# Altium schematic symbol library 23-Sensors 传感器.SchLib: 62 symbols
Pins are listed as number, name and electrical type; pins without a type are passive.

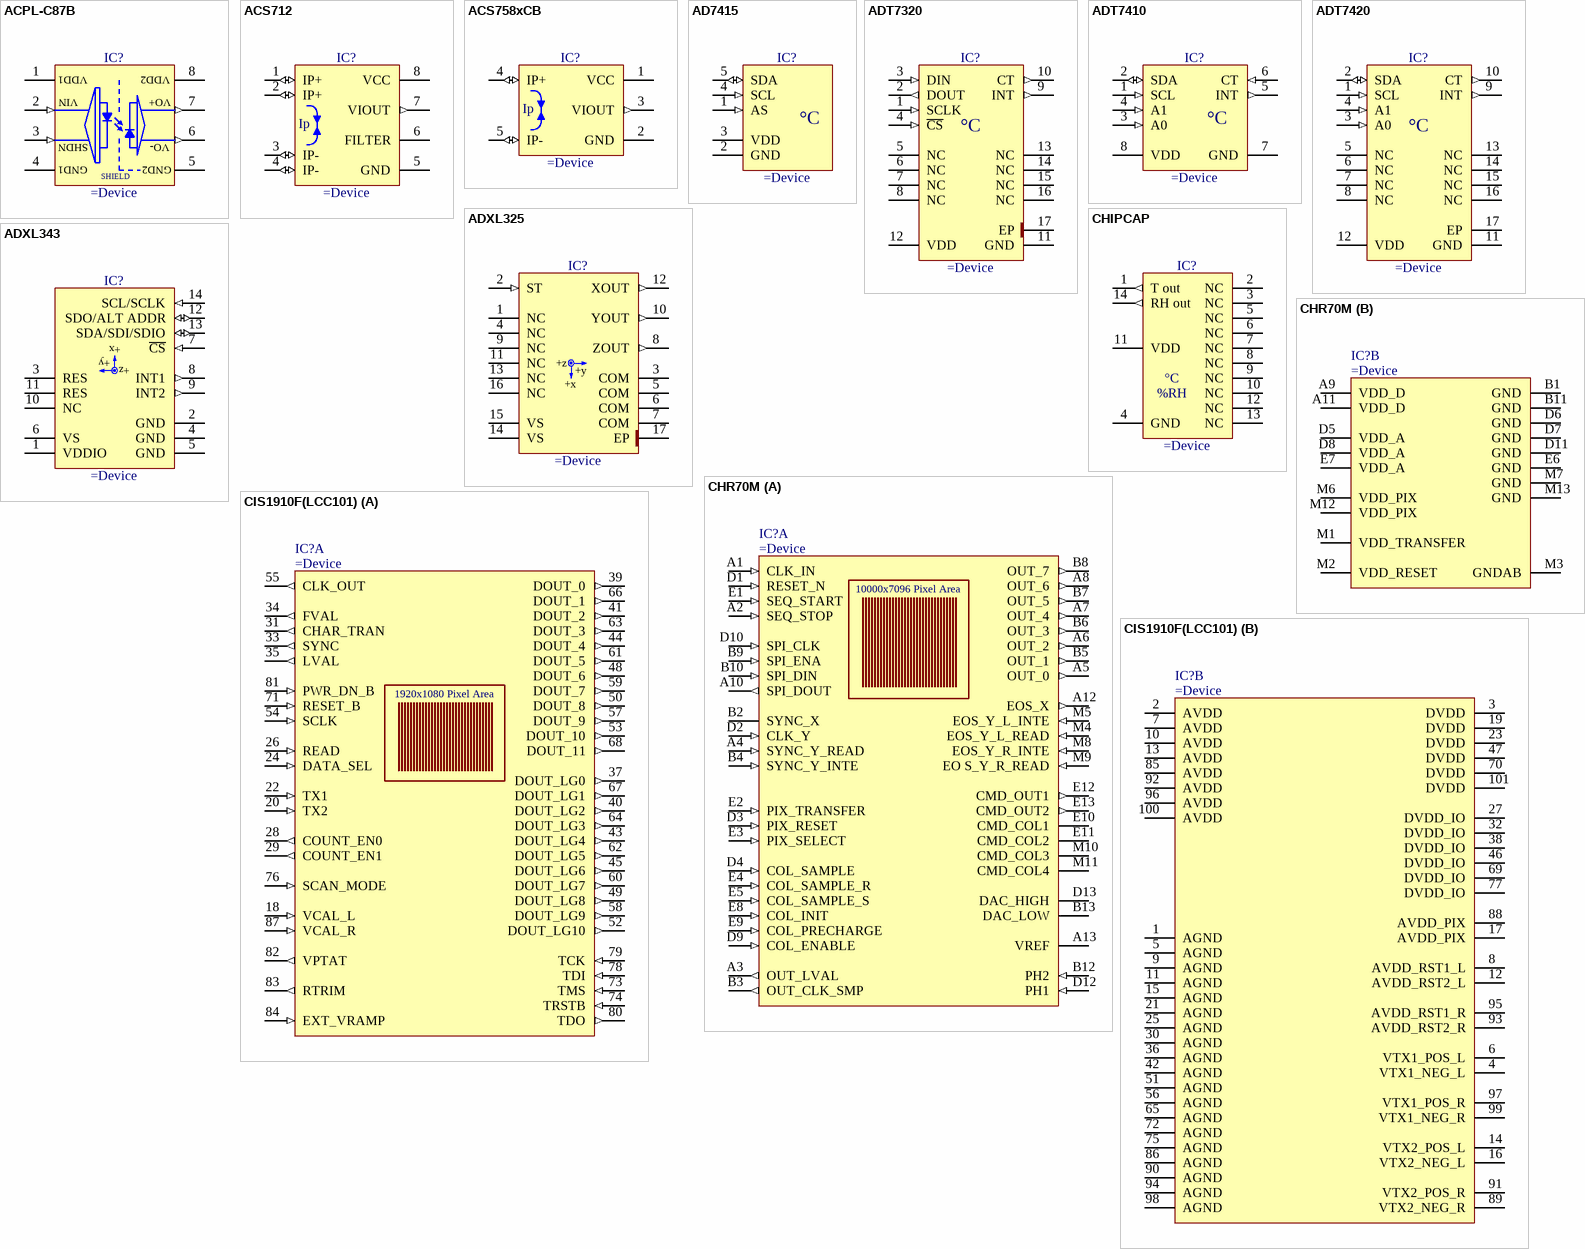
[diagram p0: symbols ACPL-C87B to CIS1910F(LCC101)]

## ACPL-C87B
designator IC?
Precision Optically Isolated Voltage Sensor
pins: 1 VDD1 (power), 2 VIN (in), 3 SHDN (in), 4 GND1 (power), 5 GND2 (power), 6 VOUT- (out), 7 VOUT+ (out), 8 VDD2 (power)
text: VO+; VO-; SHIELD

## ACS712
designator IC?
Fully Integrated, Hall Effect-Based Linear Current Sensor IC with 2.1 kVRMS Isolation
pins: 1 IP+ (io), 2 IP+ (io), 3 IP- (io), 4 IP- (io), 5 GND (power), 6 FILTER, 7 VIOUT (out), 8 VCC (power)
text: Ip

## ACS758xCB
designator IC?
Thermally Enhanced, Fully Integrated, Hall Effect-Based Linear Current Sensor IC with 100μΩ Current Conductor
pins: 1 VCC (power), 2 GND (power), 3 VIOUT (out), 4 IP+ (io), 5 IP- (io)
text: Ip

## AD7415
designator IC?
±0.5°C Accurate, 10-Bit Digital Temperature Sensors
pins: 1 AS (in), 2 GND (power), 3 VDD (power), 4 SCL (in), 5 SDA (io)
text: °C

## ADT7320
designator IC?
-40° to +150°C, ±0.25°C Accurate, 16-Bit Digital SPI Temperature Sensor
pins: 1 SCLK (in), 2 DOUT (out), 3 DIN (in), 4 ~{CS} (in), 5 NC, 6 NC, 7 NC, 8 NC, 9 INT (out), 10 CT (out), 11 GND (power), 12 VDD (power), 13 NC, 14 NC, 15 NC, 16 NC, 17 EP (power)
text: °C

## ADT7410
designator IC?
±0.5°C Accurate, 16-Bit Digital I2C Temperature Sensor
pins: 1 SCL (in), 2 SDA (io), 3 A0 (in), 4 A1 (in), 5 INT (out), 6 CT (in), 7 GND (power), 8 VDD (power)
text: °C

## ADT7420
designator IC?
±0.25°C Accurate, 16-Bit Digital I2C Temperature Sensor
pins: 1 SCL (in), 2 SDA (io), 3 A0 (in), 4 A1 (in), 5 NC, 6 NC, 7 NC, 8 NC, 9 INT (out), 10 CT (out), 11 GND (power), 12 VDD (power), 13 NC, 14 NC, 15 NC, 16 NC, 17 EP (power)
text: °C

## ADXL325
designator IC?
Small, Low Power, 3-Axis ±5g Accelerometer
pins: 1 NC, 2 ST (in), 3 COM (power), 4 NC, 5 COM (power), 6 COM (power), 7 COM (power), 8 ZOUT (out), 9 NC, 10 YOUT (out), 11 NC, 12 XOUT (out), 13 NC, 14 VS (power), 15 VS (power), 16 NC, 17 EP (power)
text: +z; +y; +x

## ADXL343
designator IC?
3-Axis, ±2g/±4g/±8g/±16g Digital MEMS Accelerometer
pins: 1 VDDIO (power), 2 GND (power), 3 RES, 4 GND (power), 5 GND (power), 6 VS (power), 7 ~{CS} (in), 8 INT1 (out), 9 INT2 (out), 10 NC, 11 RES, 12 SDO/ALT ADDR (io), 13 SDA/SDI/SDIO (io), 14 SCL/SCLK (in)
text: +x; +y; +z

## CHIPCAP
designator IC?
Humidity and Temperature Sensor IC
pins: 1 T out (out), 2 NC, 3 NC, 4 GND (power), 5 NC, 6 NC, 7 NC, 8 NC, 9 NC, 10 NC, 11 VDD (power), 12 NC, 13 NC, 14 RH out (out)
text: °C; %RH

## CHR70M
designator IC?
High Resolution 70 Megapixels CMOS Image Sensor
part A pins: A1 CLK_IN (in), A2 SEQ_STOP (in), A3 OUT_LVAL (out), A4 SYNC_Y_READ (in), A5 OUT_0 (out), A6 OUT_2 (out), A7 OUT_4 (out), A8 OUT_6 (out), A10 SPI_DOUT (out), A12 EOS_X (out), A13 VREF, B2 SYNC_X, B3 OUT_CLK_SMP (out), B4 SYNC_Y_INTE (in), B5 OUT_1 (out), B6 OUT_3 (out), B7 OUT_5 (out), B8 OUT_7 (out), B9 SPI_ENA (in), B10 SPI_DIN (in), B12 PH2 (in), B13 DAC_LOW, D1 RESET_N (in), D2 CLK_Y (in), D3 PIX_RESET (in), D4 COL_SAMPLE (in), D9 COL_ENABLE (in), D10 SPI_CLK (in), D12 PH1 (in), D13 DAC_HIGH, E1 SEQ_START (in), E2 PIX_TRANSFER (in), E3 PIX_SELECT (in), E4 COL_SAMPLE_R (in), E5 COL_SAMPLE_S (in), E8 COL_INIT (in), E9 COL_PRECHARGE (in), E10 CMD_COL1, E11 CMD_COL2, E12 CMD_OUT1 (out), E13 CMD_OUT2 (out), M4 EOS_Y_L_READ (in), M5 EOS_Y_L_INTE (in), M8 EOS_Y_R_INTE (in), M9 EO S_Y_R_READ (in), M10 CMD_COL3, M11 CMD_COL4
part B pins: A9 VDD_D (power), A11 VDD_D (power), B1 GND (power), B11 GND (power), D5 VDD_A (power), D6 GND (power), D7 GND (power), D8 VDD_A (power), D11 GND (power), E6 GND (power), E7 VDD_A (power), M1 VDD_TRANSFER (power), M2 VDD_RESET (power), M3 GNDAB (power), M6 VDD_PIX (power), M7 GND (power), M12 VDD_PIX (power), M13 GND (power)
part A text: 10000x7096 Pixel Area

## CIS1910F(LCC101)
designator IC?
2.1 Megapixels (1920 x 1080 Pixel) CMOS Image Sensor
part A pins: 18 VCAL_L (in), 20 TX2 (in), 22 TX1 (in), 24 DATA_SEL (in), 26 READ (in), 28 COUNT_EN0 (out), 29 COUNT_EN1 (out), 31 CHAR_TRAN (out), 33 SYNC (out), 34 FVAL (out), 35 LVAL (out), 37 DOUT_LG0 (out), 39 DOUT_0 (out), 40 DOUT_LG2 (out), 41 DOUT_2 (out), 43 DOUT_LG4 (out), 44 DOUT_4 (out), 45 DOUT_LG6 (out), 48 DOUT_6 (out), 49 DOUT_LG8 (out), 50 DOUT_8 (out), 52 DOUT_LG10 (out), 53 DOUT_10 (out), 54 SCLK (in), 55 CLK_OUT (out), 57 DOUT_9 (out), 58 DOUT_LG9 (out), 59 DOUT_7 (out), 60 DOUT_LG7 (out), 61 DOUT_5 (out), 62 DOUT_LG5 (out), 63 DOUT_3 (out), 64 DOUT_LG3 (out), 66 DOUT_1 (out), 67 DOUT_LG1 (out), 68 DOUT_11 (out), 71 RESET_B (in), 73 TMS (in), 74 TRSTB (in), 76 SCAN_MODE (in), 78 TDI (in), 79 TCK (in), 80 TDO (out), 81 PWR_DN_B (in), 82 VPTAT (out), 83 RTRIM (out), 84 EXT_VRAMP (in), 87 VCAL_R (in)
part B pins: 1 AGND (power), 2 AVDD (power), 3 DVDD (power), 4 VTX1_NEG_L (power), 5 AGND (power), 6 VTX1_POS_L (power), 7 AVDD (power), 8 AVDD_RST1_L (power), 9 AGND (power), 10 AVDD (power), 11 AGND (power), 12 AVDD_RST2_L (power), 13 AVDD (power), 14 VTX2_POS_L (power), 15 AGND (power), 16 VTX2_NEG_L (power), 17 AVDD_PIX (power), 19 DVDD (power), 21 AGND (power), 23 DVDD (power), 25 AGND (power), 27 DVDD_IO (power), 30 AGND (power), 32 DVDD_IO (power), 36 AGND (power), 38 DVDD_IO (power), 42 AGND (power), 46 DVDD_IO (power), 47 DVDD (power), 51 AGND (power), 56 AGND (power), 65 AGND (power), 69 DVDD_IO (power), 70 DVDD (power), 72 AGND (power), 75 AGND (power), 77 DVDD_IO (power), 85 AVDD (power), 86 AGND (power), 88 AVDD_PIX (power), 89 VTX2_NEG_R (power), 90 AGND (power), 91 VTX2_POS_R (power), 92 AVDD (power), 93 AVDD_RST2_R (power), 94 AGND (power), 95 AVDD_RST1_R (power), 96 AVDD (power), 97 VTX1_POS_R (power), 98 AGND (power), 99 VTX1_NEG_R (power), 100 AVDD (power), 101 DVDD (power)
part A text: 1920x1080 Pixel Area

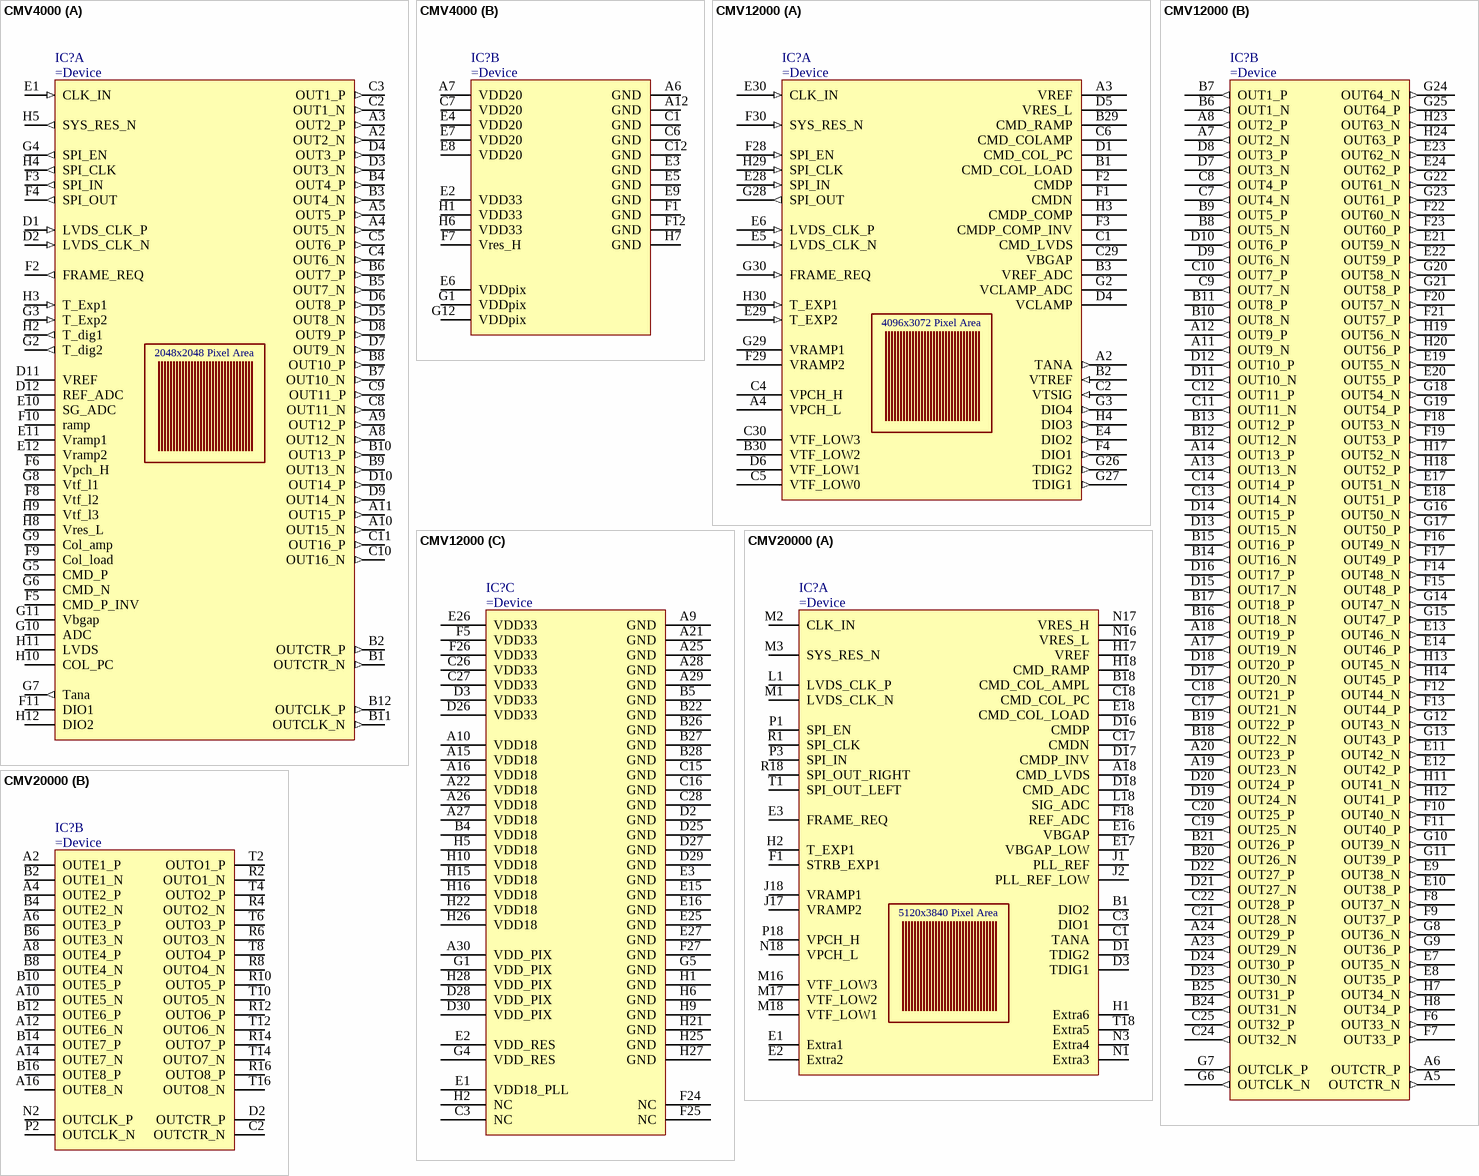
[diagram p1: symbols CMV4000 to CMV20000]

## CMV4000
designator IC?
Megapixel Machine Vision CMOS Image Sensor
part A pins: A2 OUT2_N (out), A3 OUT2_P (out), A4 OUT5_N (out), A5 OUT5_P (out), A8 OUT12_N (out), A9 OUT12_P (out), A10 OUT15_N (out), A11 OUT15_P (out), B1 OUTCTR_N (out), B2 OUTCTR_P (out), B3 OUT4_N (out), B4 OUT4_P (out), B5 OUT7_N (out), B6 OUT7_P (out), B7 OUT10_N (out), B8 OUT10_P (out), B9 OUT13_N (out), B10 OUT13_P (out), B11 OUTCLK_N (out), B12 OUTCLK_P (out), C2 OUT1_N (out), C3 OUT1_P (out), C4 OUT6_N (out), C5 OUT6_P (out), C8 OUT11_N (out), C9 OUT11_P (out), C10 OUT16_N (out), C11 OUT16_P (out), D1 LVDS_CLK_P (in), D2 LVDS_CLK_N (in), D3 OUT3_N (out), D4 OUT3_P (out), D5 OUT8_N (out), D6 OUT8_P (out), D7 OUT9_N (out), D8 OUT9_P (out), D9 OUT14_N (out), D10 OUT14_P (out), D11 VREF, D12 REF_ADC, E1 CLK_IN (in), E10 SG_ADC, E11 Vramp1, E12 Vramp2, F2 FRAME_REQ (out), F3 SPI_IN (out), F4 SPI_OUT (out), F5 CMD_P_INV, F6 Vpch_H, F8 Vtf_l2, F9 Col_load, F10 ramp, F11 DIO1, G2 T_dig2 (out), G3 T_Exp2 (in), G4 SPI_EN (out), G5 CMD_P, G6 CMD_N, G7 Tana (out), G8 Vtf_l1, G9 Col_amp, G10 ADC, G11 Vbgap, H2 T_dig1 (out), H3 T_Exp1 (in), H4 SPI_CLK (out), H5 SYS_RES_N (out), H8 Vres_L, H9 Vtf_l3, H10 COL_PC, H11 LVDS, H12 DIO2
part B pins: A6 GND (power), A7 VDD20 (power), A12 GND (power), C1 GND (power), C6 GND (power), C7 VDD20 (power), C12 GND (power), E2 VDD33 (power), E3 GND (power), E4 VDD20 (power), E5 GND (power), E6 VDDpix (power), E7 VDD20 (power), E8 VDD20 (power), E9 GND (power), F1 GND (power), F7 Vres_H (power), F12 GND (power), G1 VDDpix (power), G12 VDDpix (power), H1 VDD33 (power), H6 VDD33 (power), H7 GND (power)
part A text: 2048x2048 Pixel Area

## CMV12000
designator IC?
12 Megapixel Machine Vision CMOS Image Sensor
part A pins: A2 TANA (out), A3 VREF, A4 VPCH_L, B1 CMD_COL_LOAD, B2 VTREF (in), B3 VREF_ADC, B29 CMD_RAMP, B30 VTF_LOW2, C1 CMD_LVDS, C2 VTSIG (in), C4 VPCH_H, C5 VTF_LOW0, C6 CMD_COLAMP, C29 VBGAP, C30 VTF_LOW3, D1 CMD_COL_PC, D4 VCLAMP, D5 VRES_L, D6 VTF_LOW1, E4 DIO2 (out), E5 LVDS_CLK_N (in), E6 LVDS_CLK_P (in), E28 SPI_IN (in), E29 T_EXP2 (in), E30 CLK_IN (in), F1 CMDN, F2 CMDP, F3 CMDP_COMP_INV, F4 DIO1 (out), F28 SPI_EN (in), F29 VRAMP2, F30 SYS_RES_N (in), G2 VCLAMP_ADC, G3 DIO4 (out), G26 TDIG2 (out), G27 TDIG1 (out), G28 SPI_OUT (out), G29 VRAMP1, G30 FRAME_REQ (in), H3 CMDP_COMP, H4 DIO3 (out), H29 SPI_CLK (in), H30 T_EXP1 (in)
part B pins: A5 OUTCTR_N (out), A6 OUTCTR_P (out), A7 OUT2_N (out), A8 OUT2_P (out), A11 OUT9_N (out), A12 OUT9_P (out), A13 OUT13_N (out), A14 OUT13_P (out), A17 OUT19_N (out), A18 OUT19_P (out), A19 OUT23_N (out), A20 OUT23_P (out), A23 OUT29_N (out), A24 OUT29_P (out), B6 OUT1_N (out), B7 OUT1_P (out), B8 OUT5_N (out), B9 OUT5_P (out), B10 OUT8_N (out), B11 OUT8_P (out), B12 OUT12_N (out), B13 OUT12_P (out), B14 OUT16_N (out), B15 OUT16_P (out), B16 OUT18_N (out), B17 OUT18_P (out), B18 OUT22_N (out), B19 OUT22_P (out), B20 OUT26_N (out), B21 OUT26_P (out), B24 OUT31_N (out), B25 OUT31_P (out), C7 OUT4_N (out), C8 OUT4_P (out), C9 OUT7_N (out), C10 OUT7_P (out), C11 OUT11_N (out), C12 OUT11_P (out), C13 OUT14_N (out), C14 OUT14_P (out), C17 OUT21_N (out), C18 OUT21_P (out), C19 OUT25_N (out), C20 OUT25_P (out), C21 OUT28_N (out), C22 OUT28_P (out), C24 OUT32_N (out), C25 OUT32_P (out), D7 OUT3_N (out), D8 OUT3_P (out), D9 OUT6_N (out), D10 OUT6_P (out), D11 OUT10_N (out), D12 OUT10_P (out), D13 OUT15_N (out), D14 OUT15_P (out), D15 OUT17_N (out), D16 OUT17_P (out), D17 OUT20_N (out), D18 OUT20_P (out), D19 OUT24_N (out), D20 OUT24_P (out), D21 OUT27_N (out), D22 OUT27_P (out), D23 OUT30_N (out), D24 OUT30_P (out), E7 OUT35_N (out), E8 OUT35_P (out), E9 OUT38_N (out), E10 OUT38_P (out), E11 OUT42_N (out), E12 OUT42_P (out), E13 OUT46_N (out), E14 OUT46_P (out), E17 OUT51_N (out), E18 OUT51_P (out), E19 OUT55_N (out), E20 OUT55_P (out), E21 OUT59_N (out), E22 OUT59_P (out), E23 OUT62_N (out), E24 OUT62_P (out), F6 OUT33_N (out), F7 OUT33_P (out), F8 OUT37_N (out), F9 OUT37_P (out), F10 OUT40_N (out), F11 OUT40_P (out), F12 OUT44_N (out), F13 OUT44_P (out), F14 OUT48_N (out), F15 OUT48_P (out), F16 OUT49_N (out), F17 OUT49_P (out), F18 OUT53_N (out), F19 OUT53_P (out), F20 OUT57_N (out), F21 OUT57_P (out), F22 OUT60_N (out), F23 OUT60_P (out), G6 OUTCLK_N (out), G7 OUTCLK_P (out), G8 OUT36_N (out), G9 OUT36_P (out), G10 OUT39_N (out), G11 OUT39_P (out), G12 OUT43_N (out), G13 OUT43_P (out), G14 OUT47_N (out), G15 OUT47_P (out), G16 OUT50_N (out), G17 OUT50_P (out), G18 OUT54_N (out), G19 OUT54_P (out), G20 OUT58_N (out), G21 OUT58_P (out), G22 OUT61_N (out), G23 OUT61_P (out), G24 OUT64_N (out), G25 OUT64_P (out), H7 OUT34_N (out), H8 OUT34_P (out), H11 OUT41_N (out), H12 OUT41_P (out), H13 OUT45_N (out), H14 OUT45_P (out), H17 OUT52_N (out), H18 OUT52_P (out), H19 OUT56_N (out), H20 OUT56_P (out), H23 OUT63_N (out), H24 OUT63_P (out)
part C pins: A9 GND (power), A10 VDD18 (power), A15 VDD18 (power), A16 VDD18 (power), A21 GND (power), A22 VDD18 (power), A25 GND (power), A26 VDD18 (power), A27 VDD18 (power), A28 GND (power), A29 GND (power), A30 VDD_PIX (power), B4 VDD18 (power), B5 GND (power), B22 GND (power), B26 GND (power), B27 GND (power), B28 GND (power), C3 NC, C15 GND (power), C16 GND (power), C26 VDD33 (power), C27 VDD33 (power), C28 GND (power), D2 GND (power), D3 VDD33 (power), D25 GND (power), D26 VDD33 (power), D27 GND (power), D28 VDD_PIX (power), D29 GND (power), D30 VDD_PIX (power), E1 VDD18_PLL (power), E2 VDD_RES (power), E3 GND (power), E15 GND (power), E16 GND (power), E25 GND (power), E26 VDD33 (power), E27 GND (power), F5 VDD33 (power), F24 NC, F25 NC, F26 VDD33 (power), F27 GND (power), G1 VDD_PIX (power), G4 VDD_RES (power), G5 GND (power), H1 GND (power), H2 NC, H5 VDD18 (power), H6 GND (power), H9 GND (power), H10 VDD18 (power), H15 VDD18 (power), H16 VDD18 (power), H21 GND (power), H22 VDD18 (power), H25 GND (power), H26 VDD18 (power), H27 GND (power), H28 VDD_PIX (power)
part A text: 4096x3072 Pixel Area

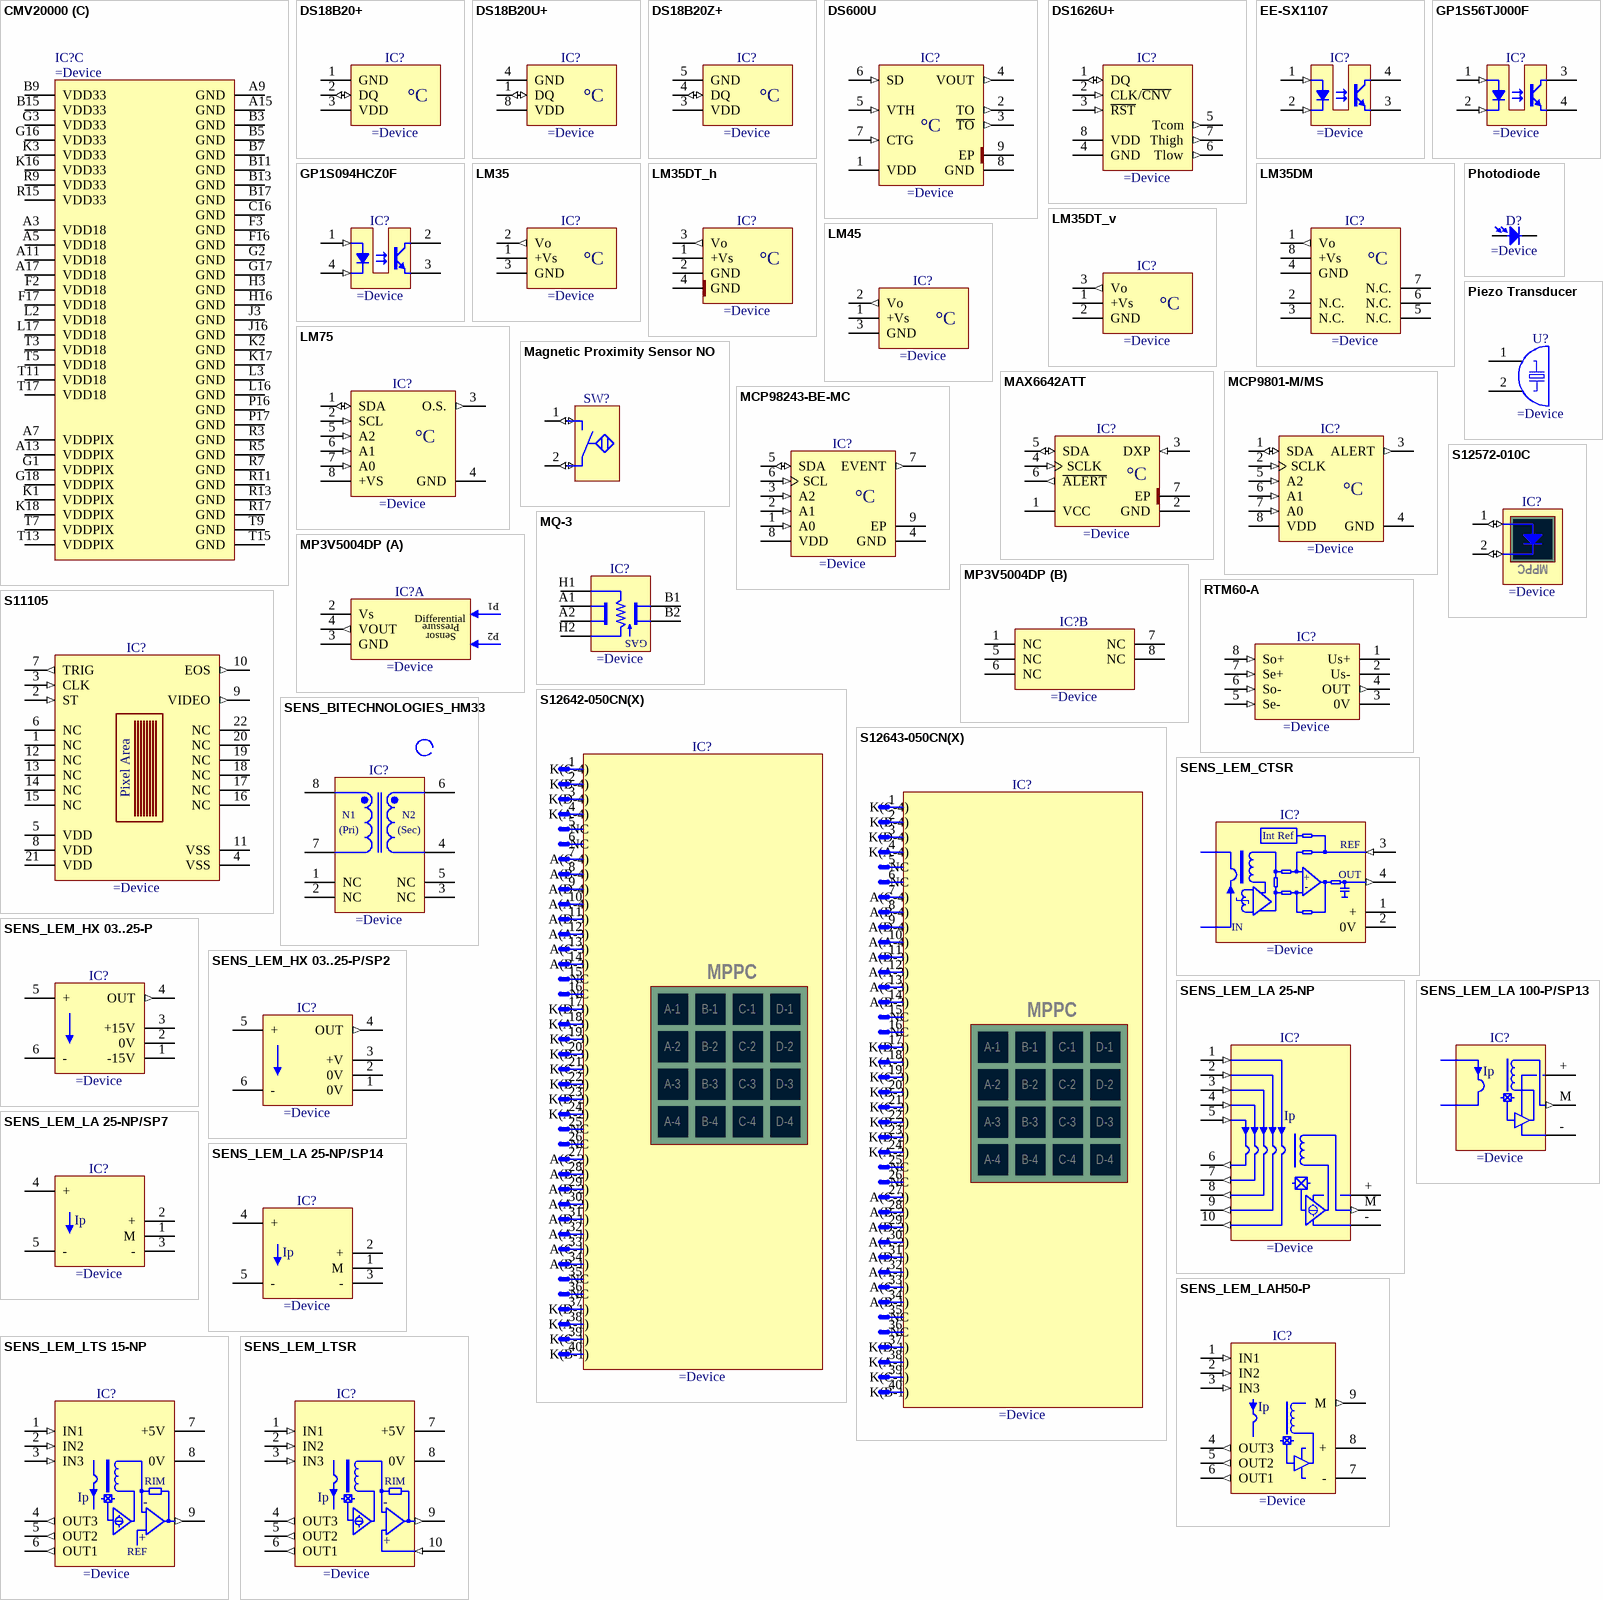
[diagram p2: symbols CMV20000 to SENS_LEM_LTSR]

## CMV20000
designator IC?
20 Megapixel Machine Global Shutter CMOS Image Sensor
part A pins: A18 CMD_LVDS (power), B1 DIO2 (power), B18 CMD_COL_AMPL (power), C1 TANA (power), C3 DIO1 (power), C17 CMDN (power), C18 CMD_COL_PC (power), D1 TDIG2 (power), D3 TDIG1 (power), D16 CMDP (power), D17 CMDP_INV (power), D18 CMD_ADC (power), E1 Extra1 (power), E2 Extra2 (power), E3 FRAME_REQ (power), E16 VBGAP (power), E17 VBGAP_LOW (power), E18 CMD_COL_LOAD (power), F1 STRB_EXP1 (power), F18 REF_ADC (power), H1 Extra6 (power), H2 T_EXP1 (power), H17 VREF (power), H18 CMD_RAMP (power), J1 PLL_REF (power), J2 PLL_REF_LOW (power), J17 VRAMP2 (power), J18 VRAMP1 (power), L1 LVDS_CLK_P (power), L18 SIG_ADC (power), M1 LVDS_CLK_N (power), M2 CLK_IN (power), M3 SYS_RES_N (power), M16 VTF_LOW3 (power), M17 VTF_LOW2 (power), M18 VTF_LOW1 (power), N1 Extra3 (power), N3 Extra4 (power), N16 VRES_L (power), N17 VRES_H (power), N18 VPCH_L (power), P1 SPI_EN (power), P3 SPI_IN (power), P18 VPCH_H (power), R1 SPI_CLK (power), R18 SPI_OUT_RIGHT (power), T1 SPI_OUT_LEFT (power), T18 Extra5 (power)
part B pins: A2 OUTE1_P (power), A4 OUTE2_P (power), A6 OUTE3_P (power), A8 OUTE4_P (power), A10 OUTE5_N (power), A12 OUTE6_N (power), A14 OUTE7_N (power), A16 OUTE8_N (power), B2 OUTE1_N (power), B4 OUTE2_N (power), B6 OUTE3_N (power), B8 OUTE4_N (power), B10 OUTE5_P (power), B12 OUTE6_P (power), B14 OUTE7_P (power), B16 OUTE8_P (power), C2 OUTCTR_N (power), D2 OUTCTR_P (power), N2 OUTCLK_P (power), P2 OUTCLK_N (power), R2 OUTO1_N (power), R4 OUTO2_N (power), R6 OUTO3_N (power), R8 OUTO4_N (power), R10 OUTO5_P (power), R12 OUTO6_P (power), R14 OUTO7_P (power), R16 OUTO8_P (power), T2 OUTO1_P (power), T4 OUTO2_P (power), T6 OUTO3_P (power), T8 OUTO4_P (power), T10 OUTO5_N (power), T12 OUTO6_N (power), T14 OUTO7_N (power), T16 OUTO8_N (power)
part C pins: A3 VDD18 (power), A5 VDD18 (power), A7 VDDPIX (power), A9 GND (power), A11 VDD18 (power), A13 VDDPIX (power), A15 GND (power), A17 VDD18 (power), B3 GND (power), B5 GND (power), B7 GND (power), B9 VDD33 (power), B11 GND (power), B13 GND (power), B15 VDD33 (power), B17 GND (power), C16 GND (power), F2 VDD18 (power), F3 GND (power), F16 GND (power), F17 VDD18 (power), G1 VDDPIX (power), G2 GND (power), G3 VDD33 (power), G16 VDD33 (power), G17 GND (power), G18 VDDPIX (power), H3 GND (power), H16 GND (power), J3 GND (power), J16 GND (power), K1 VDDPIX (power), K2 GND (power), K3 VDD33 (power), K16 VDD33 (power), K17 GND (power), K18 VDDPIX (power), L2 VDD18 (power), L3 GND (power), L16 GND (power), L17 VDD18 (power), P16 GND (power), P17 GND (power), R3 GND (power), R5 GND (power), R7 GND (power), R9 VDD33 (power), R11 GND (power), R13 GND (power), R15 VDD33 (power), R17 GND (power), T3 VDD18 (power), T5 VDD18 (power), T7 VDDPIX (power), T9 GND (power), T11 VDD18 (power), T13 VDDPIX (power), T15 GND (power), T17 VDD18 (power)
part A text: 5120x3840 Pixel Area

## DS18B20+
designator IC?
Programmable Resolution 1-Wire Digital Thermometer
pins: 1 GND (power), 2 DQ (io), 3 VDD (power)
text: °C

## DS18B20U+
designator IC?
Programmable Resolution 1-Wire Digital Thermometer
pins: 1 DQ (io), 4 GND (power), 8 VDD (power)
text: °C

## DS18B20Z+
designator IC?
Programmable Resolution 1-Wire Digital Thermometer
pins: 3 VDD (power), 4 DQ (io), 5 GND (power)
text: °C

## DS600U
designator IC?
-20°C to +100°C, ±0.5 Accurate Analog-Output Temperature Sensor
pins: 1 VDD (power), 2 TO (out), 3 ~{TO} (out), 4 VOUT (out), 5 VTH (in), 6 SD (in), 7 CTG (in), 8 GND (power), 9 EP (power)
text: °C

## DS1626U+
designator IC?
-55°C to +125°C High-Precision 3-Wire Digital Thermometer and Thermostat
pins: 1 DQ (io), 2 CLK/~{CNV} (in), 3 ~{RST} (in), 4 GND (power), 5 Tcom (out), 6 Tlow (out), 7 Thigh (out), 8 VDD (power)

## EE-SX1107
designator IC?
Photomicrosensor (Transmissive)
pins: 1 A (in), 2 K (in), 3 E (oe), 4 C (oc)

## GP1S56TJ000F
designator IC?
Gap : 2mm, Slit : 0.15mm Phototransistor Output, Case package Transmissive Photointerrupter
pins: 1 A (in), 2 K (in), 3 C (oc), 4 E (oe)

## GP1S094HCZ0F
designator IC?
Gap : 3mm, Slit : 0.3mm Phototransistor Output, Compact Transmissive Photointerrupter
pins: 1 A (in), 2 C (oc), 3 E (oe), 4 K (in)

## LM35
designator IC?
Precision Centigrade Temperature Sensor
pins: 1 +Vs (power), 2 Vo (out), 3 GND (power)
text: °C

## LM35DM
designator IC?
Precision Centigrade Temperature Sensor
pins: 1 Vo (out), 2 N.C., 3 N.C., 4 GND (power), 5 N.C., 6 N.C., 7 N.C., 8 +Vs (power)
text: °C

## LM35DT_h
designator IC?
Precision Centigrade Temperature Sensor
pins: 1 +Vs (power), 2 GND (power), 3 Vo (out), 4 GND (power)
text: °C

## LM35DT_v
designator IC?
Precision Centigrade Temperature Sensor
pins: 1 +Vs (power), 2 GND (power), 3 Vo (out)
text: °C

## LM45
designator IC?
-20° to +100°C ±3°C Precision Centigrade Temperature Sensors
pins: 1 +Vs (power), 2 Vo (out), 3 GND (power)
text: °C

## LM75
designator IC?
Digital Temperature Sensor and Thermal Watchdog with Two-Wire Interface
pins: 1 SDA (io), 2 SCL (in), 3 O.S. (out), 4 GND (power), 5 A2 (in), 6 A1 (in), 7 A0 (in), 8 +VS (power)
text: °C

## Magnetic Proximity Sensor NO
designator SW?
Magnetic Proximity Sensor Normaly Open Contact
pins: 1 (io), 2 (io)

## MAX6642ATT
designator IC?
±1°C, SMBus-Compatible Remote/Local Temperature Sensor with Overtemperature Alarm
pins: 1 VCC (power), 2 GND (power), 3 DXP (in), 4 SCLK (in), 5 SDA (io), 6 ~{ALERT} (out), 7 EP (power)
text: °C

## MCP9801-M/MS
designator IC?
2-Wire High-Accuracy Temperature Sensor
pins: 1 SDA (io), 2 SCLK (in), 3 ALERT (out), 4 GND (power), 5 A2 (in), 6 A1 (in), 7 A0 (in), 8 VDD (power)
text: °C

## MCP98243-BE-MC
designator IC?
Memory Module Temperature Sensor w/ EEPROM for SPD
pins: 1 A0 (in), 2 A1 (in), 3 A2 (in), 4 GND (power), 5 SDA (io), 6 SCL (in), 7 EVENT (out), 8 VDD (power), 9 EP (power)
text: °C

## MP3V5004DP
designator IC?
Integrated Silicon Pressure Sensor, On-Chip Signal Conditioned, Temperature Compensated and Calibrated
part A pins: 2 Vs (power), 3 GND (power), 4 VOUT (out)
part B pins: 1 NC, 5 NC, 6 NC, 7 NC, 8 NC
part A text: P1; Differential; Pressure; Sensor; P2

## MQ-3
designator IC?
High Sensitivity to Alcohol and Small Sensitivity to Benzine Sensor
pins: A1 A, A2 A, B1 B, B2 B, H1, H2
text: GAS

## Photodiode
designator D?
Photodiode
pins: 1 C, 2 A

## Piezo Transducer
designator U?
Piezo Transducer
pins: 1, 2

## RTM60-A
designator IC?
Transducer For Pt-100, Resistors
pins: 1 Us+ (power), 2 Us- (power), 3 0V (power), 4 OUT (out), 5 Se- (in), 6 So- (in), 7 Se+ (in), 8 So+ (in)

## S11105
designator IC?
512 Pixels 50MHz Video Data Rate CMOS Linear Image Sensor
pins: 1 NC, 2 ST (in), 3 CLK (in), 4 VSS (power), 5 VDD (power), 6 NC, 7 TRIG (out), 8 VDD (power), 9 VIDEO (out), 10 EOS (out), 11 VSS (power), 12 NC, 13 NC, 14 NC, 15 NC, 16 NC, 17 NC, 18 NC, 19 NC, 20 NC, 21 VDD (power), 22 NC
text: Pixel Area

## S12572-010C
designator IC?
Single Element MPPC (Multi-Pixel Photon Counter)
pins: 1 A (io), 2 C (io)
text: MPPC

## S12642-050CN(X)
designator IC?
4x4 Channel MPPC (Multi-Pixel Photon Counter)
text: 1; K(C-4); 2; K(B-4); 3; K(D-4); 4; K(A-4); 5; NC; 6; 7; A(C-4); 8; A(B-4); 9; A(D-4); 10; A(A-4); 11; A(D-3); 12; A(A-3); 13; A(C-3); 14; A(B-3); 15; MPPC; 16; 17; K(D-3); A-1; B-1; C-1; D-1; 18; K(A-3); 19; K(C-3); 20; A-2; B-2; C-2; D-2; K(B-3); 21; K(C-2); 22; K(B-2); A-3; B-3; C-3; D-3; 23; K(D-2); 24; K(A-2); 25; A-4; B-4; C-4; D-4; 26; 27; A(C-2); 28; A(B-2); 29; A(D-2); 30; A(A-2); 31; A(D-1); 32; A(A-1); 33; A(C-1); 34; A(B-1); 35; 36; 37; K(D-1); 38; K(A-1); 39; K(C-1); 40; K(B-1)

## S12643-050CN(X)
designator IC?
4x4 Channel MPPC (Multi-Pixel Photon Counter)
text: 1; K(C-4); 2; K(B-4); 3; K(D-4); 4; K(A-4); 5; NC; 6; 7; A(C-4); 8; A(B-4); 9; A(D-4); 10; A(A-4); 11; A(D-3); 12; A(A-3); 13; A(C-3); 14; A(B-3); 15; MPPC; 16; 17; K(D-3); A-1; B-1; C-1; D-1; 18; K(A-3); 19; K(C-3); 20; A-2; B-2; C-2; D-2; K(B-3); 21; K(C-2); 22; K(B-2); A-3; B-3; C-3; D-3; 23; K(D-2); 24; K(A-2); 25; A-4; B-4; C-4; D-4; 26; 27; A(C-2); 28; A(B-2); 29; A(D-2); 30; A(A-2); 31; A(D-1); 32; A(A-1); 33; A(C-1); 34; A(B-1); 35; 36; 37; K(D-1); 38; K(A-1); 39; K(C-1); 40; K(B-1)

## SENS_BITECHNOLOGIES_HM33
designator IC?
Current Sense Surface Mount Transformers
pins: 1 NC, 2 NC, 3 NC, 4 SEC4, 5 NC, 6 SEC6, 7 PRIM7, 8 PRIM8
text: N1; N2; (Pri); (Sec)

## SENS_LEM_CTSR
designator IC?
Current Transducer
pins: 1 + (power), 2 0V (power), 3 REF (in), 4 OUT (out)
text: Int Ref; -; IN

## SENS_LEM_HX 03..25-P
designator IC?
Current Transducer
pins: 1 -15V (power), 2 0V (power), 3 +15V (power), 4 OUT (out), 5 +, 6 -

## SENS_LEM_HX 03..25-P/SP2
designator IC?
Current Transducer
pins: 1 0V (power), 2 0V (power), 3 +V (power), 4 OUT (out), 5 +, 6 -

## SENS_LEM_LA 25-NP
designator IC?
Current Transducer (Ipn=25A)
pins: 1 IN1 (in), 2 IN2 (in), 3 IN3 (in), 4 IN4 (in), 5 IN5 (in), 6 OUT5 (out), 7 OUT4 (out), 8 OUT3 (out), 9 OUT2 (out), 10 OUT1 (out), + (power), - (power), M (out)
text: Ip

## SENS_LEM_LA 25-NP/SP7
designator IC?
Current Transducer
pins: 1 M (power), 2 + (power), 3 - (power), 4 +, 5 -
text: Ip

## SENS_LEM_LA 25-NP/SP14
designator IC?
Current Transducer
pins: 1 M (power), 2 + (power), 3 - (power), 4 +, 5 -
text: Ip

## SENS_LEM_LA 100-P/SP13
designator IC?
Current Transducer (Ipn=100A)
pins: + (power), - (power), M (out)
text: Ip

## SENS_LEM_LAH50-P
designator IC?
Current Transducer (Ipn=50A)
pins: 1 IN1 (in), 2 IN2 (in), 3 IN3 (in), 4 OUT3 (out), 5 OUT2 (out), 6 OUT1 (out), 7 - (power), 8 + (power), 9 M (out)
text: Ip

## SENS_LEM_LTS 15-NP
designator IC?
Current Transducer (Ipn=±15A)
pins: 1 IN1 (in), 2 IN2 (in), 3 IN3 (in), 4 OUT3 (out), 5 OUT2 (out), 6 OUT1 (out), 7 +5V (power), 8 0V (power), 9 OUT (out)
text: RIM; Ip; -; +; REF

## SENS_LEM_LTSR
designator IC?
Current Transducer
pins: 1 IN1 (in), 2 IN2 (in), 3 IN3 (in), 4 OUT3 (out), 5 OUT2 (out), 6 OUT1 (out), 7 +5V (power), 8 0V (power), 9 OUT (out), 10 REF (in)
text: RIM; Ip; -; +

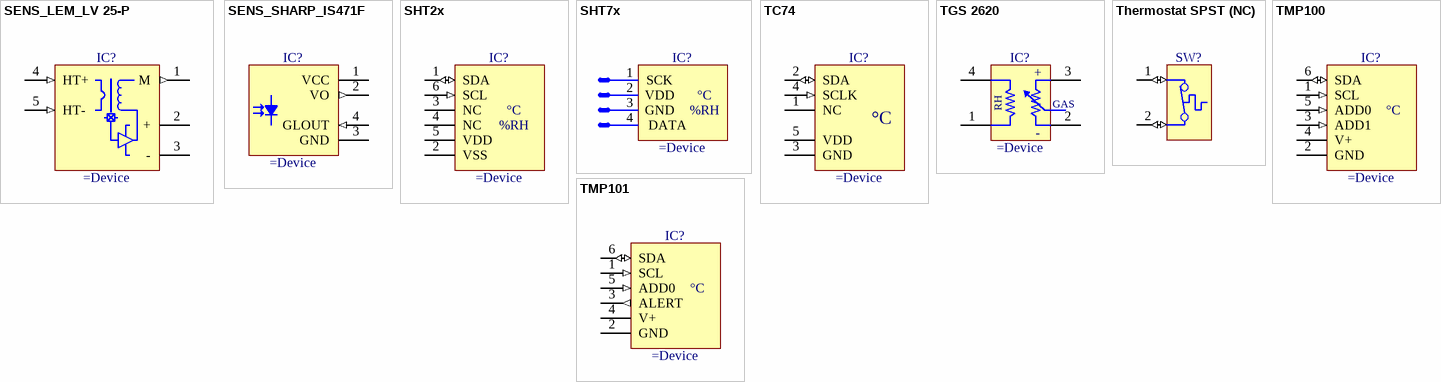
[diagram p3: symbols SENS_LEM_LV 25-P to TMP101]

## SENS_LEM_LV 25-P
designator IC?
VoltageTransducer (Vpn=10..500V)
pins: 1 M (out), 2 + (power), 3 - (power), 4 HT+ (in), 5 HT- (in)

## SENS_SHARP_IS471F
designator IC?
OPIC Light Detector
pins: 1 VCC (power), 2 VO (out), 3 GND (power), 4 GLOUT (in)

## SHT2x
designator IC?
Humidity and Temperature Sensor IC
pins: 1 SDA (io), 2 VSS (power), 3 NC, 4 NC, 5 VDD (power), 6 SCL (in)
text: °C; %RH

## SHT7x
designator IC?
Humidity and Temperature Sensor IC
text: 1; SCK; 2; VDD; °C; 3; GND; %RH; 4; DATA

## TC74
designator IC?
0° to +125°C, ±3°C Accurate, 8-Bit Tiny Serial Digital Thermal Sensor
pins: 1 NC, 2 SDA (io), 3 GND (power), 4 SCLK (in), 5 VDD (power)
text: °C

## TGS 2620
designator IC?
High Sensitivity Alcohol and Organic Solvent Detector
pins: 1, 2, 3, 4
text: +; RH; GAS; -

## Thermostat SPST (NC)
designator SW?
Thermostat SPST (Normaly Close Contact)
pins: 1 (io), 2 (io)

## TMP100
designator IC?
Digital Temperature Sensor with I2C Interface
pins: 1 SCL (in), 2 GND (power), 3 ADD1 (in), 4 V+ (power), 5 ADD0 (in), 6 SDA (io)
text: °C

## TMP101
designator IC?
Digital Temperature Sensor with I2C Interface
pins: 1 SCL (in), 2 GND (power), 3 ALERT (out), 4 V+ (power), 5 ADD0 (in), 6 SDA (io)
text: °C